# Altium schematic symbol library MUI.SchLib: 38 symbols
Pins are listed as number, name and electrical type; pins without a type are passive.

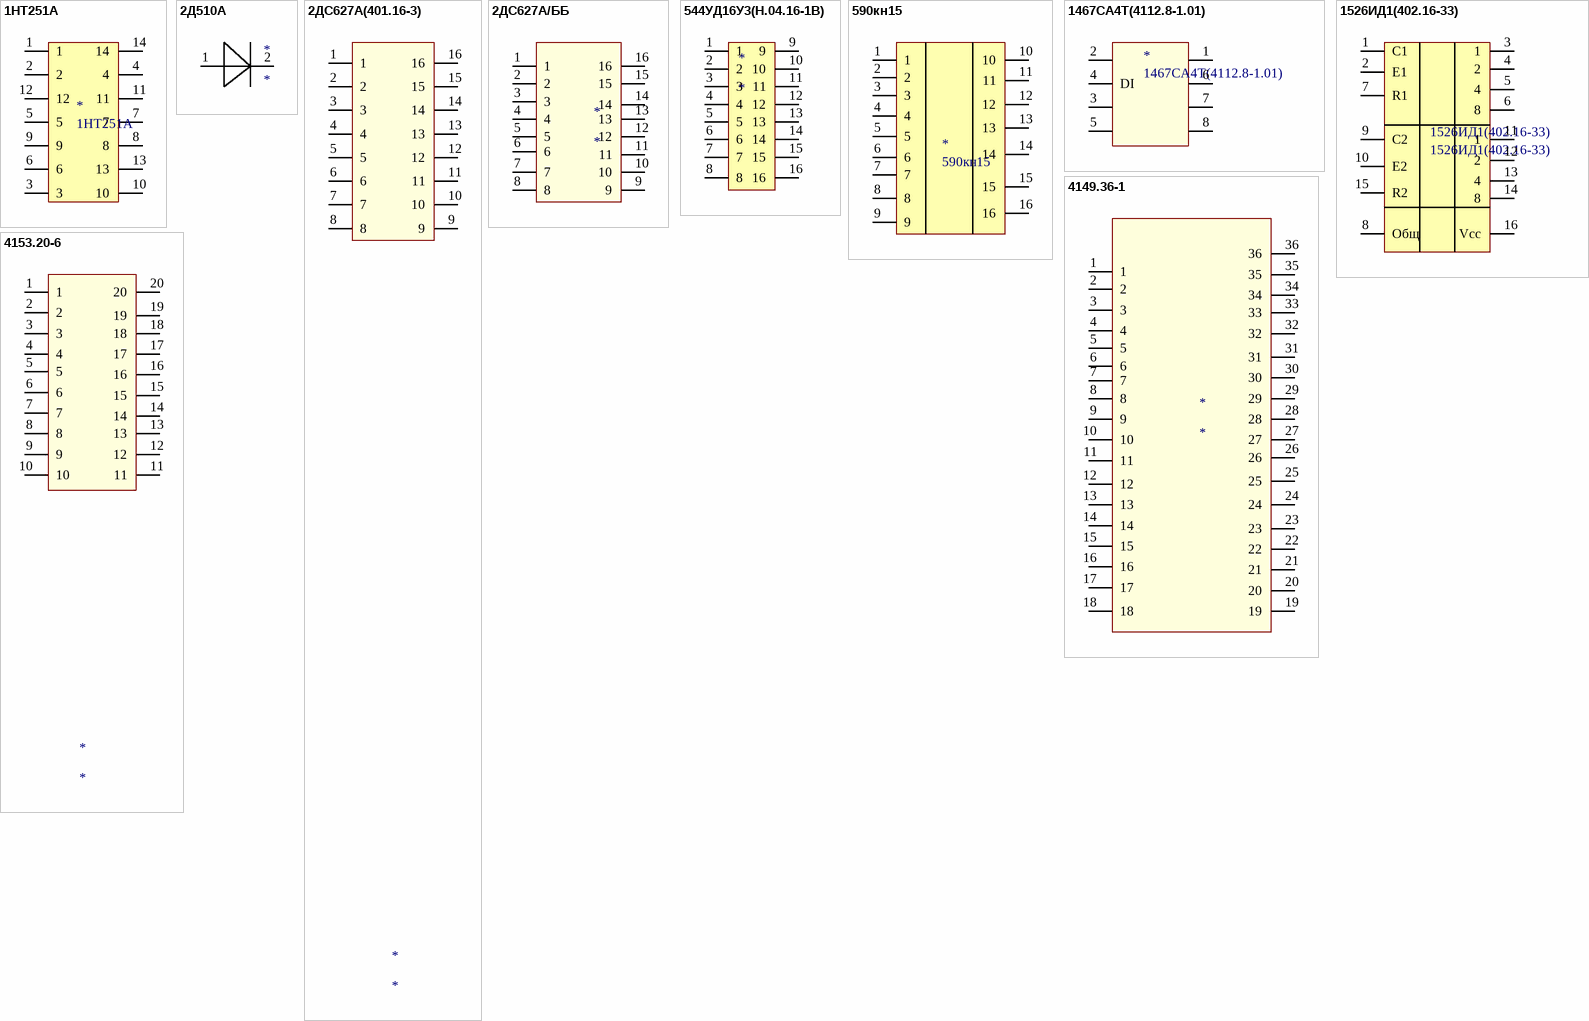
[diagram p0: symbols 1HT251A to 4153.20-6]

## 1HT251A
designator *
footprint 1HT251A
pins: 1, 2, 3, 4, 5, 6, 7, 8, 9, 10, 11, 12, 13, 14

## 2Д510А
designator *
footprint 2Д510А
pins: 1, 2

## 2ДС627А(401.16-3)
designator *
footprint 2ДС627А(401.16-3)
pins: 1, 2, 3, 4, 5, 6, 7, 8, 9, 10, 11, 12, 13, 14, 15, 16

## 2ДС627А/ББ
designator *
footprint 2ДС627А/ББ
pins: 1, 2, 3, 4, 5, 6, 7, 8, 9, 10, 11, 12, 13, 14, 15, 16

## 544УД16У3(Н.04.16-1В)
designator *
footprint 544УД16У3(Н.04.16-1В)
pins: 1, 2, 3, 4, 5, 6, 7, 8, 9, 10, 11, 12, 13, 14, 15, 16

## 590кн15
designator *
footprint 590кн15
pins: 1, 2, 3, 4, 5, 6, 7, 8, 9, 10, 11, 12, 13, 14, 15, 16

## 1467CA4T(4112.8-1.01)
designator *
footprint 1467CA4T(4112.8-1.01)
pins: 1 Ro, 2 RE, 3 DE, 4 DI, 5, 6 Y, 7 Z, 8

## 1526ИД1(402.16-33)
designator 1526ИД1(402.16-33)
footprint 1526ИД1(402.16-33)
pins: 1 С1, 2 Е1, 3 1, 4 2, 5 4, 6 8, 7 R1, 8 Общ, 9 C2, 10 E2, 11 1, 12 2, 13 4, 14 8, 15 R2, 16 Vcc

## 4149.36-1
designator *
footprint 4149.36-1
pins: 1, 2, 3, 4, 5, 6, 7, 8, 9, 10, 11, 12, 13, 14, 15, 16, 17, 18, 19, 20, 21, 22, 23, 24, 25, 26, 27, 28, 29, 30, 31, 32, 33, 34, 35, 36

## 4153.20-6
designator *
footprint 4153.20-6
pins: 1, 2, 3, 4, 5, 6, 7, 8, 9, 10, 11, 12, 13, 14, 15, 16, 17, 18, 19, 20

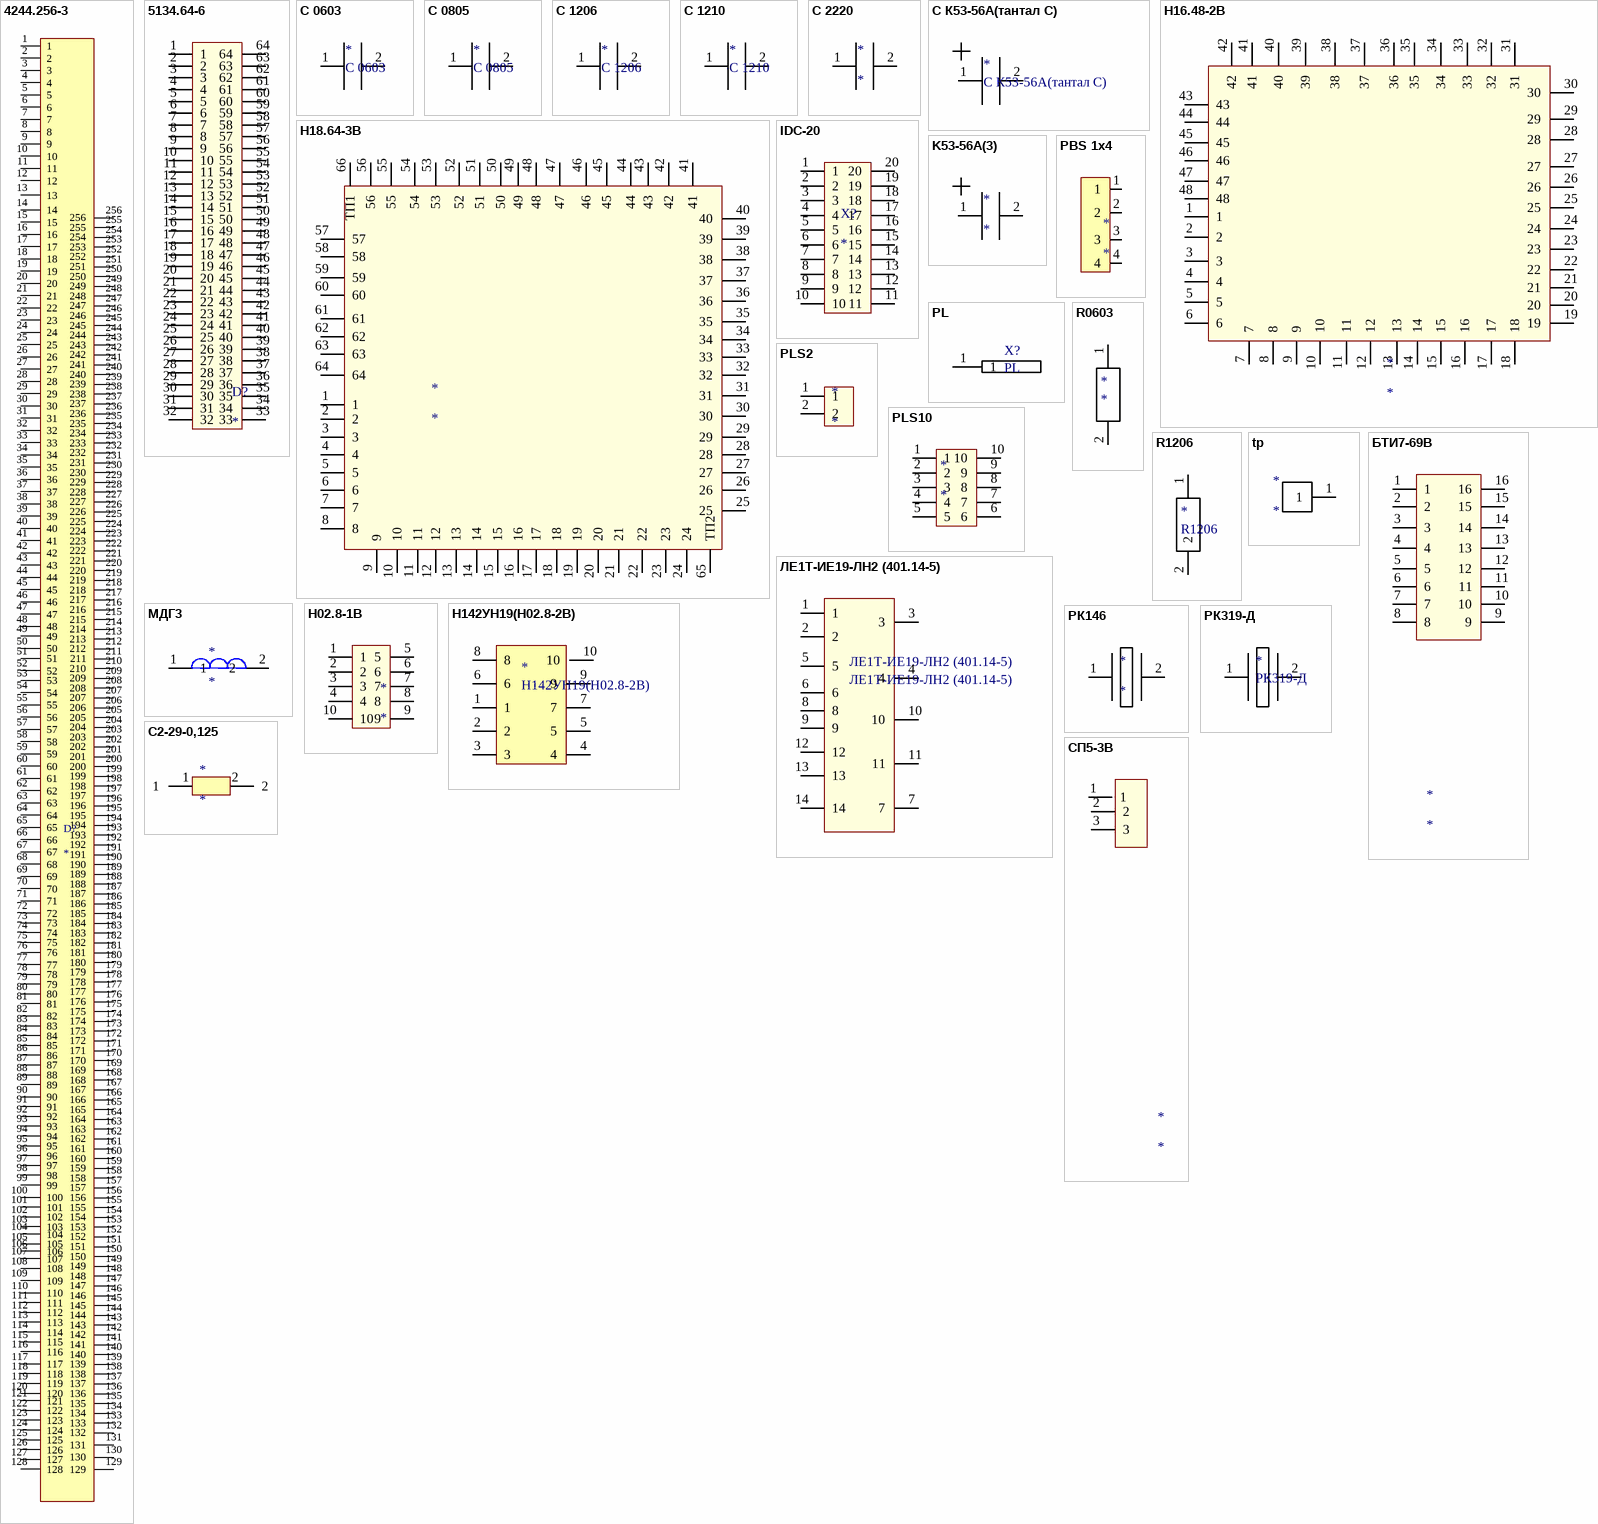
[diagram p1: symbols 4244.256-3 to СП5-3В]

## 4244.256-3
designator D?
footprint 4244.256-3 (44ж)
pins: 1, 2, 3, 4, 5, 6, 7, 8, 9, 10, 11, 12, 13, 14, 15, 16, 17, 18, 19, 20, 21, 22, 23, 24, 25, 26, 27, 28, 29, 30, 31, 32, 33, 34, 35, 36, 37, 38, 39, 40, 41, 42, 43, 44, 45, 46, 47, 48, 49, 50, 51, 52, 53, 54, 55, 56, 57, 58, 59, 60, 61, 62, 63, 64, 65, 66, 67, 68, 69, 70, 71, 72, 73, 74, 75, 76, 77, 78, 79, 80, 81, 82, 83, 84, 85, 86, 87, 88, 89, 90, 91, 92, 93, 94, 95, 96, 97, 98, 99, 100, 101, 102, 103, 104, 105, 106, 107, 108, 109, 110, 111, 112, 113, 114, 115, 116, 117, 118, 119, 120, 121, 122, 123, 124, 125, 126, 127, 128, 129, 130, 131, 132, 133, 134, 135, 136, 137, 138, 139, 140, 141, 142, 143, 144, 145, 146, 147, 148, 149, 150, 151, 152, 153, 154, 155, 156, 157, 158, 159, 160, 161, 162, 163, 164, 165, 166, 167, 168, 169, 170, 171, 172, 173, 174, 175, 176, 177, 178, 179, 180, 181, 182, 183, 184, 185, 186, 187, 188, 189, 190, 191, 192, 193, 194, 195, 196, 197, 198, 199, 200, 201, 202, 203, 204, 205, 206, 207, 208, 209, 210, 211, 212, 213, 214, 215, 216, 217, 218, 219, 220, 221, 222, 223, 224, 225, 226, 227, 228, 229, 230, 231, 232, 233, 234, 235, 236, 237, 238, 239, 240, 241, 242, 243, 244, 245, 246, 247, 248, 249, 250, 251, 252, 253, 254, 255, 256

## 5134.64-6
designator D?
footprint 5134.64-6
pins: 1, 2, 3, 4, 5, 6, 7, 8, 9, 10, 11, 12, 13, 14, 15, 16, 17, 18, 19, 20, 21, 22, 23, 24, 25, 26, 27, 28, 29, 30, 31, 32, 33, 34, 35, 36, 37, 38, 39, 40, 41, 42, 43, 44, 45, 46, 47, 48, 49, 50, 51, 52, 53, 54, 55, 56, 57, 58, 59, 60, 61, 62, 63, 64

## C 0603
designator *
footprint C 0603
pins: 1, 2

## C 0805
designator *
footprint C 0805
pins: 1, 2

## C 1206
designator *
footprint C 1206
pins: 1, 2

## C 1210
designator *
footprint C 1210
pins: 1, 2

## C 2220
designator *
footprint C 2220
pins: 1, 2

## C К53-56А(тантал С)
designator *
footprint C К53-56А(тантал С)
pins: 1, 2

## H16.48-2B
designator *
footprint H16.48-2B
pins: 1, 2, 3, 4, 5, 6, 7, 8, 9, 10, 11, 12, 13, 14, 15, 16, 17, 18, 19, 20, 21, 22, 23, 24, 25, 26, 27, 28, 29, 30, 31, 32, 33, 34, 35, 36, 37, 38, 39, 40, 41, 42, 43, 44, 45, 46, 47, 48

## H18.64-3B
designator *
footprint H18.64-3B
pins: 1, 2, 3, 4, 5, 6, 7, 8, 9, 10, 11, 12, 13, 14, 15, 16, 17, 18, 19, 20, 21, 22, 23, 24, 25, 26, 27, 28, 29, 30, 31, 32, 33, 34, 35, 36, 37, 38, 39, 40, 41, 42, 43, 44, 45, 46, 47, 48, 49, 50, 51, 52, 53, 54, 55, 56, 57, 58, 59, 60, 61, 62, 63, 64, 65 ТП2, 66 ТП1

## IDC-20
designator X?
footprint IDC-20
pins: 1, 2, 3, 4, 5, 6, 7, 8, 9, 10, 11, 12, 13, 14, 15, 16, 17, 18, 19, 20

## K53-56A(3)
designator *
footprint K53-56A(3)
pins: 1, 2

## PBS 1x4
designator *
footprint PBS 1x4
pins: 1, 2, 3, 4

## PL
designator X?
footprint PL
pins: 1

## PLS2
designator *
footprint PLS2
pins: 1, 2

## PLS10
designator *
footprint PLS10
pins: 1, 2, 3, 4, 5, 6, 7, 8, 9, 10

## R0603
designator *
footprint R0603
pins: 1, 2

## R1206
designator *
footprint R1206
pins: 1, 2

## tp
designator *
footprint tp
pins: 1

## БТИ7-69В
designator *
footprint БТИ7-69В
pins: 1, 2, 3, 4, 5, 6, 7, 8, 9, 10, 11, 12, 13, 14, 15, 16

## ЛЕ1Т-ИЕ19-ЛН2 (401.14-5)
designator ЛЕ1Т-ИЕ19-ЛН2 (401.14-5)
footprint ЛЕ1Т-ИЕ19-ЛН2 (401.14-5)
pins: 1, 2, 3, 4, 5, 6, 7, 8, 9, 10, 11, 12, 13, 14

## МДГ3
designator *
footprint МДГ3
pins: 1, 2

## Н02.8-1В
designator *
footprint Н02.8-1В
pins: 1, 2, 3, 4, 5, 6, 7, 8, 9, 10

## Н142УН19(Н02.8-2В)
designator *
footprint Н142УН19(Н02.8-2В)
pins: 1, 2, 3, 4, 5, 6, 7, 8, 9, 10

## РК146
designator *
footprint РК146
pins: 1, 2

## РК319-Д
designator *
footprint РК319-Д
pins: 1, 2

## С2-29-0,125
designator *
footprint С2-29-0,125
pins: 1, 2

## СП5-3В
designator *
footprint СП5-3В
pins: 1, 2, 3